# EAGLE library part TEENSY_SMD (library Parts)
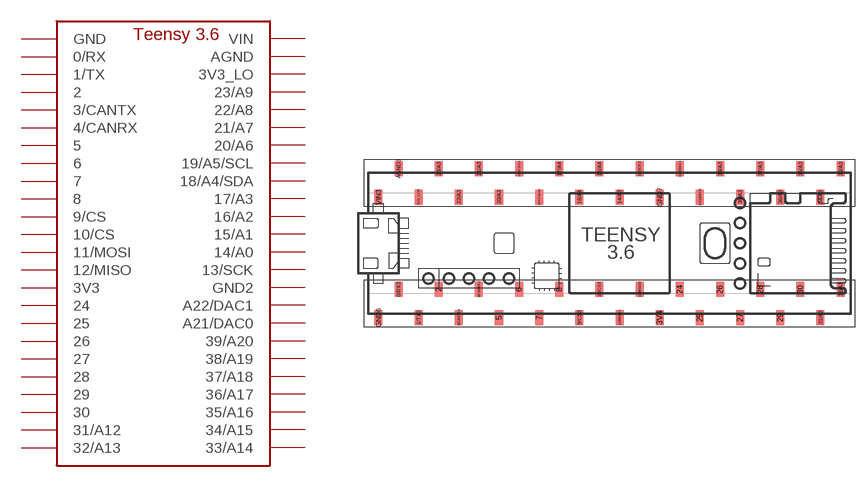
[diagram p3: symbol with the pads of TEENSY_3.6_SMD; footprint TEENSY_3.6_SMD]

Designator prefix -

## TEENSY_SMD  [TEENSY_3.6_SMD]
0/RX3  0/RX
1/TX3  1/TX
2  2
3/CANTX3  3/CANTX
3V3_LO3  3V3_LO
3V4  3V3
4/CANRX3  4/CANRX
5  5
6  6
7  7
8  8
9/CS3  9/CS
10/CS3  10/CS
11/MOSI3  11/MOSI
12/MISO3  12/MISO
13/SCK3  13/SCK
14/A3  14/A0
15/A4  15/A1
16/A4  16/A2
17/A4  17/A3
18/A4/SDA3  18/A4/SDA
19/A5/SCL3  19/A5/SCL
20/A3  20/A6
21/A3  21/A7
22/A3  22/A8
23/A3  23/A9
24  24
25  25
26  26
27  27
28  28
29  29
30  30
31/A3  31/A12
32/A3  32/A13
33/A3  33/A14
34/A3  34/A15
35/A3  35/A16
36/A3  36/A17
37/A3  37/A18
38/A3  38/A19
39/A3  39/A20
A21/DAC0  A21/DAC0
A22/DAC1  A22/DAC1
AGND3  AGND
GND6  GND
GND7  GND2
VIN3  VIN

## Footprint TEENSY_3.6_SMD (pad centres in mm)
smd 1.016 x 1.905: 0/RX3 -26.67,-5.842; 1/TX3 -24.13,-9.398; 2 -21.59,-5.842; 3/CANTX3 -19.05,-9.398; 3V3_LO3 -24.13,5.842; 3V4 6.35,-9.398; 4/CANRX3 -16.51,-5.842; 5 -13.97,-9.398; 6 -11.43,-5.842; 7 -8.89,-9.398; 8 -6.35,-5.842; 9/CS3 -3.81,-9.398; 10/CS3 -1.27,-5.842; 11/MOSI3 1.27,-9.398; 12/MISO3 3.81,-5.842; 13/SCK3 3.81,9.398; 14/A3 1.27,5.842; 15/A4 -1.27,9.398; 16/A4 -3.81,5.842; 17/A4 -6.35,9.398; 18/A4/SDA3 -8.89,5.842; 19/A5/SCL3 -11.43,9.398; 20/A3 -13.97,5.842; 21/A3 -16.51,9.398; 22/A3 -19.05,5.842; 23/A3 -21.59,9.398; 24 8.89,-5.842; 25 11.43,-9.398; 26 13.97,-5.842; 27 16.51,-9.398; 28 19.05,-5.842; 29 21.59,-9.398; 30 24.13,-5.842; 31/A3 26.67,-9.398; 32/A3 29.21,-5.842; 33/A3 29.21,9.398; 34/A3 26.67,5.842; 35/A3 24.13,9.398; 36/A3 21.59,5.842; 37/A3 19.05,9.398; 38/A3 16.51,5.842; 39/A3 13.97,9.398; A21/DAC0 11.43,5.842; A22/DAC1 8.89,9.398; AGND3 -26.67,9.398; GND6 -29.21,-9.398; GND7 6.35,5.842; VIN3 -29.21,5.842